# Altium schematic symbol library BJT.SchLib: 4 symbols
Pins are listed as number, name and electrical type; pins without a type are passive.

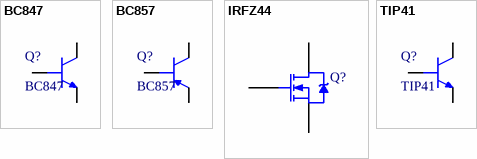
[diagram p0: symbols BC847 to TIP41]

## BC847
designator Q?
NPN transistor
footprint SOT23
footprint TO-220 (TO-220 Vertical Mount)
pins: 1, 2, 3

## BC857
designator Q?
PNP Transistor
footprint SOT23
pins: 1, 2, 3

## IRFZ44
designator Q?
HEXFET N-Channel Power MOSFET; Note: Pin 2 is electrically connected to pin 4.; Published: 8-Jun-2000; LatestRevisionDate: 17-Jul-2002; LatestRevisionNote: Re-released for DXP Platform.; DatasheetVersion: PD-9.510C; PackageVersion: Feb-1997; PackageReference: TO-220AB; Publisher: Altium Limited; PackageDescription: TO, Thru-Hole, Vertical, Heatsink Mounted; 3 In-Line Leads; Pitch 2.54 mm; ComponentLink1Description: Manufacturer Link; ComponentLink1URL: http://www.irf.com/; ComponentLink2Description: Datasheet; ComponentLink2URL: http://www.irf.com/product-info/datasheets/data/irfz44.pdf
simulation model IRFZ44 (SUBCKT)
footprint TO-263AB
pins: 1 G, 2 D, 3 S

## TIP41
designator Q?
NPN Epitaxial silicon transistor
footprint TO-220 (TO-220 Vertical Mount)
pins: 1, 2, 3